# EAGLE library part LTC1966 (library G1Tech-Integrated-Circuits)
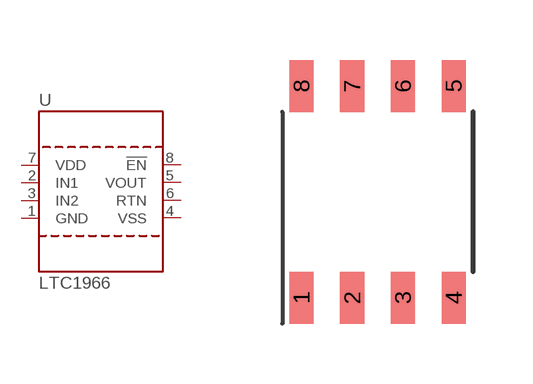
[diagram p1: symbol with the pads of MS8; footprint MS8]

Designator prefix U

## LTC1966  [MS8]
1  GND  pwr
2  IN1  in
3  IN2  in
4  VSS  pwr
5  VOUT  out
6  RTN  out
7  VDD  pwr
8  !EN

## Footprint MS8 (pad centres in mm)
Reflow soldering footprint for MS8 http://www.analog.com/media/en/technical-documentation/data-sheets/1966fb.pdf?domain=www.linear.com
smd 0.6 x 1.3: 1 -1.905,-2.65; 2 -0.635,-2.65; 3 0.635,-2.65; 4 1.905,-2.65; 5 1.905,2.65; 6 0.635,2.65; 7 -0.635,2.65; 8 -1.905,2.65